# Altium footprint library PCB1.PcbLib: 36 footprints (part 1 of 3)
Each footprint in its own frame and in the unit in brackets; x right, y up, seen from the top. Pads: shape width x height; smd on the part's side, far side on the other; paste and mask are expansions set on the pad; w line width, h text height; cw(c..) or ccw(c..) is an arc to the next point about the centre after c.
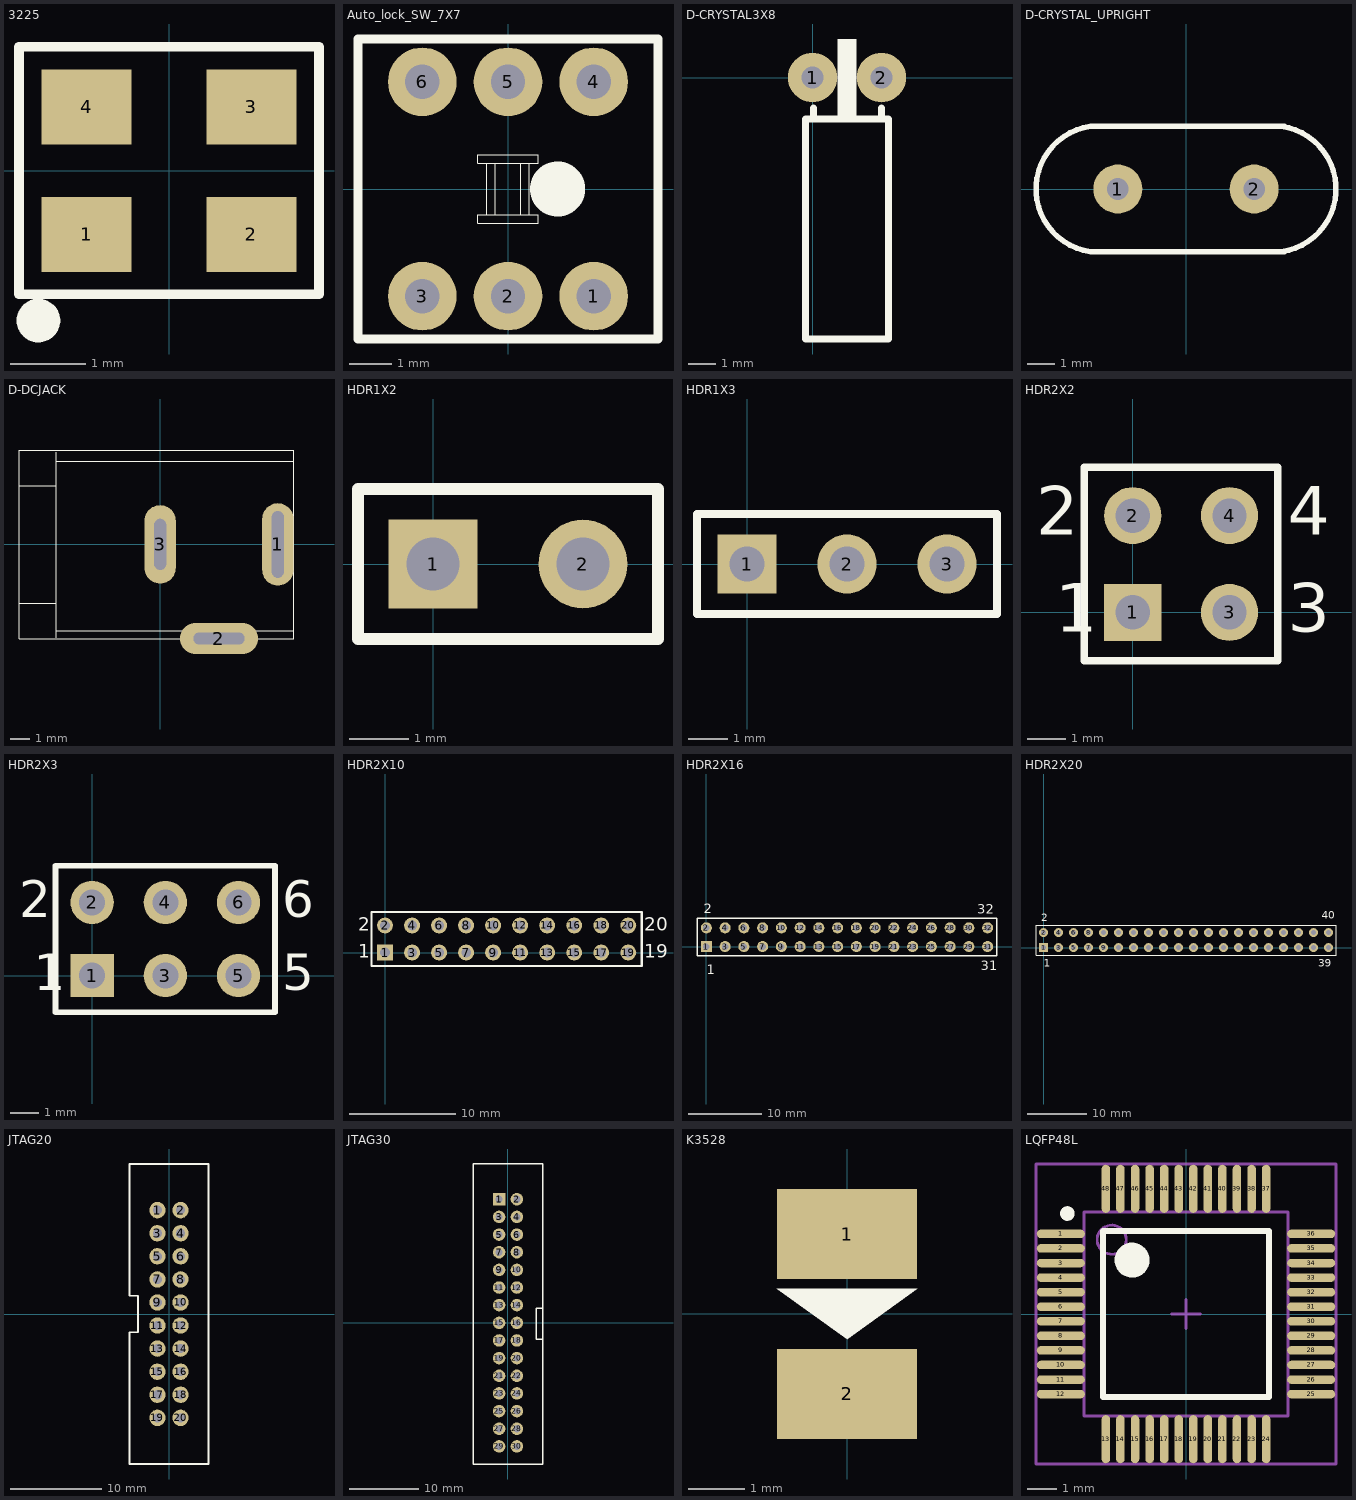
[diagram p0: the footprints below, top view; thin cyan lines are the x and y axes]

## 3225 [mm]
height 1.6
pads (4):
  rect 1.2x1 smd: 1(-1.1,-0.85) 2(1.1,-0.85) 3(1.1,0.85) 4(-1.1,0.85)
Top Overlay:
  circle w0.3: c-1.741,-2 r0.141
  lines w0.127: -2,-1.65 -2,0 -2,1.65 2,1.65 2,-1.65 -2,-1.65

## Auto_lock_SW_7X7 [mm]
height 1.6
pads (6):
  round 1.6 hole 0.8: 1(2,-2.5) 2(0,-2.5) 3(-2,-2.5) 4(2,2.5) 5(0,2.5) 6(-2,2.5)
Top Overlay:
  circle w1: c1.159,0 r0.141
  lines w0.025: -0.7,-0.8 0.7,-0.8 0.7,-0.6 -0.7,-0.6 -0.7,-0.8 ; -0.7,0.6 0.7,0.6 0.7,0.8 -0.7,0.8 -0.7,0.6 ; -0.5,-0.6 0.5,-0.6 0.5,0.6 -0.5,0.6 -0.5,-0.6 ; -0.3,-0.6 0.3,-0.6 0.3,0.6 -0.3,0.6 -0.3,-0.6
  lines w0.2: -3.5,-3.5 3.5,-3.5 3.5,3.5 -3.5,3.5 -3.5,-3.5

## D-CRYSTAL3X8 [mm]
height 1.6
pads (2):
  round 1.8 hole 0.8: 1(0,0) 2(2.5,0)
Top Overlay:
  rectangle: 0.9,-1.4 1.6,1.4
  lines w0.254: 0.03,-1.44 0.03,-1.11 ; 2.5,-1.44 2.5,-1.1 ; -0.25,-9.5 2.75,-9.5 2.75,-1.5 -0.25,-1.5 -0.25,-9.5
Bottom Overlay:
  rectangle: 0.9,-1.4 1.6,1.4

## D-CRYSTAL_UPRIGHT [mm]
height 1.6
pads (2):
  round 1.8 hole 0.8: 1(-2.5,0) 2(2.5,0)
Top Overlay:
  lines w0.2: 3.501,-2.3 ccw(c3.177,0) 3.501,2.3 ; 3.6,-2.3 -3.5,-2.3 cw(c-3.177,0) -3.501,2.3 3.6,2.3

## D-DCJACK [mm]
height 1.6
pads (3):
  oval 1.6x4.2 hole 0.6 slot 3.4 at 90 deg: 1(6,0)
  oval 4x1.6 hole 0.6 slot 2.6 at 0 deg: 2(3,-4.8)
  oval 1.6x4 hole 0.6 slot 2.6 at 90 deg: 3(0,0)
Top Overlay:
  lines w0.025: -7.2,-3 -5.35,-3 ; -7.2,3 -5.3,3 ; -5.3,-4.75 -5.3,4.7 ; -5.3,-4.4 6.8,-4.4 ; -5.3,4.25 6.8,4.25 ; -7.2,-4.8 -7.2,4.8 6.8,4.8 6.8,-4.8 -7.2,-4.8

## HDR1X2 [mm] "Connector; Header; 2 Position"
height 1.6
pads (2):
  rect 1.5x1.5 hole 0.9: 1(0,0)
  round 1.5 hole 0.9: 2(2.54,0)
Top Overlay:
  lines w0.2: -1.27,-1.27 -1.27,1.27 3.81,1.27 3.81,-1.27 -1.27,-1.27

## HDR1X3 [mm] "Connector; Header; 3 Position"
height 1.6
pads (3):
  rect 1.5x1.5 hole 0.9: 1(0,0)
  round 1.5 hole 0.9: 2(2.54,0) 3(5.08,0)
Top Overlay:
  lines w0.2: -1.27,-1.27 -1.27,1.27 6.35,1.27 6.35,-1.27 -1.27,-1.27

## HDR2X2 [mm] "Connector; Header; 2x2 Position"
height 1.6
pads (4):
  rect 1.5x1.5 hole 0.9: 1(0,0)
  round 1.5 hole 0.9: 2(0,2.54) 3(2.54,0) 4(2.54,2.54)
Top Overlay:
  lines w0.2: -1.27,-1.27 3.81,-1.27 3.81,3.81 -1.27,3.81 -1.27,-1.27
  text "3" at 4.064,-0.508 h1.27
  text "4" at 4.064,2.032 h1.27
  text "2" at -2.54,2.032 h1.27
  text "1" at -2.032,-0.508 h1.27

## HDR2X3 [mm] "Connector; Header; 3x2 Position"
height 1.6
pads (6):
  rect 1.5x1.5 hole 0.9: 1(0,0)
  round 1.5 hole 0.9: 2(0,2.54) 3(2.54,0) 4(2.54,2.54) 5(5.08,0) 6(5.08,2.54)
Top Overlay:
  lines w0.2: 1.482,-1.27 6.35,-1.27 ; 6.35,-1.27 -1.27,-1.27 -1.27,3.81 6.35,3.81 6.35,-1.27
  text "1" at -2.032,-0.508 h1.27
  text "2" at -2.54,2.032 h1.27
  text "5" at 6.604,-0.508 h1.27
  text "6" at 6.604,2.032 h1.27

## HDR2X10 [mm] "Connector; Header; 10x2 Position"
height 1.6
pads (20):
  rect 1.5x1.5 hole 0.9: 1(0,0)
  round 1.5 hole 0.9: 2(0,2.54) 3(2.54,0) 4(2.54,2.54) 5(5.08,0) 6(5.08,2.54) 7(7.62,0) 8(7.62,2.54) 9(10.16,0) 10(10.16,2.54) 11(12.7,0) 12(12.7,2.54) 13(15.24,0) 14(15.24,2.54) 15(17.78,0) 16(17.78,2.54) 17(20.32,0) 18(20.32,2.54) 19(22.86,0) 20(22.86,2.54)
Top Overlay:
  lines w0.2: -1.27,-1.27 -1.27,3.81 0.635,3.81 24.13,3.81 24.13,-1.27 0.635,-1.27 -1.27,-1.27
  text "2" at -2.54,2.032 h1.27
  text "1" at -2.54,-0.508 h1.27
  text "19" at 24.384,-0.508 h1.27
  text "20" at 24.384,2.032 h1.27

## HDR2X16 [mm] "Connector; Header; 16x2 Position"
height 1.6
pads (32):
  rect 1.5x1.5 hole 0.9: 1(0,0)
  round 1.5 hole 0.9: 2(0,2.54) 3(2.54,0) 4(2.54,2.54) 5(5.08,0) 6(5.08,2.54) 7(7.62,0) 8(7.62,2.54) 9(10.16,0) 10(10.16,2.54) 11(12.7,0) 12(12.7,2.54) 13(15.24,0) 14(15.24,2.54) 15(17.78,0) 16(17.78,2.54) 17(20.32,0) 18(20.32,2.54) 19(22.86,0) 20(22.86,2.54) 21(25.4,0) 22(25.4,2.54) 23(27.94,0) 24(27.94,2.54) 25(30.48,0) 26(30.48,2.54) 27(33.02,0) 28(33.02,2.54) 29(35.56,0) 30(35.56,2.54) 31(38.1,0) 32(38.1,2.54)
Top Overlay:
  lines w0.2: -1.27,-1.27 -1.27,3.81 39.37,3.81 39.37,-1.27 -1.27,-1.27
  text "32" at 36.678,4.445 h1.27
  text "31" at 37.16,-3.226 h1.27
  text "1" at 0.025,-3.759 h1.27
  text "2" at -0.356,4.547 h1.27

## HDR2X20 [mm] "Connector; Header; 20x2 Position"
height 1.6
pads (40):
  rect 1.5x1.5 hole 0.9: 1(0,0)
  round 1.5 hole 0.9: 2(0,2.54) 3(2.54,0) 4(2.54,2.54) 5(5.08,0) 6(5.08,2.54) 7(7.62,0) 8(7.62,2.54) 9(10.16,0) 10(10.16,2.54) 11(12.7,0) 12(12.7,2.54) 13(15.24,0) 14(15.24,2.54) 15(17.78,0) 16(17.78,2.54) 17(20.32,0) 18(20.32,2.54) 19(22.86,0) 20(22.86,2.54) 21(25.4,0) 22(25.4,2.54) 23(27.94,0) 24(27.94,2.54) 25(30.48,0) 26(30.48,2.54) 27(33.02,0) 28(33.02,2.54) 29(35.56,0) 30(35.56,2.54) 31(38.1,0) 32(38.1,2.54) 33(40.64,0) 34(40.64,2.54) 35(43.18,0) 36(43.18,2.54) 37(45.72,0) 38(45.72,2.54) 39(48.26,0) 40(48.26,2.54)
Top Overlay:
  lines w0.2: -1.27,-1.27 -1.27,3.81 49.53,3.81 49.53,-1.27 -1.27,-1.27
  text "39" at 46.558,-3.226 h1.27
  text "40" at 47.117,4.902 h1.27
  text "2" at -0.381,4.42 h1.27
  text "1" at 0.076,-3.277 h1.27

## JTAG20 [mm]
height 1.6
pads (20):
  round 1.8 hole 1 unplated: 1(-1.27,11.43) 2(1.27,11.43) 3(-1.27,8.89) 4(1.27,8.89) 5(-1.27,6.35) 6(1.27,6.35) 7(-1.27,3.81) 8(1.27,3.81) 9(-1.27,1.27) 10(1.27,1.27) 11(-1.27,-1.27) 12(1.27,-1.27) 13(-1.27,-3.81) 14(1.27,-3.81) 15(-1.27,-6.35) 16(1.27,-6.35) 17(-1.27,-8.89) 18(1.27,-8.89) 19(-1.27,-11.43) 20(1.27,-11.43)
Top Overlay:
  lines w0.2: -3.4,2 -4.35,2 -4.35,16.51 4.35,16.51 4.35,-16.51 -4.35,-16.51 -4.35,-2 -3.4,-2 -3.4,2 ; -3.4,2 -3.4,2

## JTAG30 [mm]
height 1.6
pads (30):
  rect 1.8x1.8 hole 1.02: 1(-1.27,17.78)
  round 1.8 hole 1.02: 2(1.27,17.78) 3(-1.27,15.24) 4(1.27,15.24) 5(-1.27,12.7) 6(1.27,12.7) 7(-1.27,10.16) 8(1.27,10.16) 9(-1.27,7.62) 10(1.27,7.62) 11(-1.27,5.08) 12(1.27,5.08) 13(-1.27,2.54) 14(1.27,2.54) 15(-1.27,0) 16(1.27,0) 17(-1.27,-2.54) 18(1.27,-2.54) 19(-1.27,-5.08) 20(1.27,-5.08) 21(-1.27,-7.62) 22(1.27,-7.62) 23(-1.27,-10.16) 24(1.27,-10.16) 25(-1.27,-12.7) 26(1.27,-12.7) 27(-1.27,-15.24) 28(1.27,-15.24) 29(-1.27,-17.78) 30(1.27,-17.78)
Top Overlay:
  lines w0.2: 5.035,-2.39 4.035,-2.39 4.035,2.11 5.035,2.11 ; -5.035,-20.31 5.035,-20.31 5.035,22.85 -5.035,22.85 -5.035,17.78 -5.035,-20.31

## K3528 [mm]
height 1.6
pads (2):
  rect 2.5x1.6 smd: 1(0,1.425) 2(0,-1.425)
Top Overlay:
  region: -1.25,0.45 0,-0.45 1.25,0.45

## LQFP48L [mm] "TSQFP, 48-Leads, Body 9.0x9.0mm (max), Pitch 0.50mm, IPC Medium Density"
height 1.6
pads (48):
  oval 1.65x0.292 smd: 1(-4.3,2.75) 2(-4.3,2.25) 3(-4.3,1.75) 4(-4.3,1.25) 5(-4.3,0.75) 6(-4.3,0.25) 7(-4.3,-0.25) 8(-4.3,-0.75) 9(-4.3,-1.25) 10(-4.3,-1.75) 11(-4.3,-2.25) 12(-4.3,-2.75) 25(4.3,-2.75) 26(4.3,-2.25) 27(4.3,-1.75) 28(4.3,-1.25) 29(4.3,-0.75) 30(4.3,-0.25) 31(4.3,0.25) 32(4.3,0.75) 33(4.3,1.25) 34(4.3,1.75) 35(4.3,2.25) 36(4.3,2.75)
  oval 0.292x1.65 smd: 13(-2.75,-4.3) 14(-2.25,-4.3) 15(-1.75,-4.3) 16(-1.25,-4.3) 17(-0.75,-4.3) 18(-0.25,-4.3) 19(0.25,-4.3) 20(0.75,-4.3) 21(1.25,-4.3) 22(1.75,-4.3) 23(2.25,-4.3) 24(2.75,-4.3) 37(2.75,4.3) 38(2.25,4.3) 39(1.75,4.3) 40(1.25,4.3) 41(0.75,4.3) 42(0.25,4.3) 43(-0.25,4.3) 44(-0.75,4.3) 45(-1.25,4.3) 46(-1.75,4.3) 47(-2.25,4.3) 48(-2.75,4.3)
Top Overlay:
  circle w0.25: c-4.075,3.45 r0.125
  circle w0.6: c-1.85,1.85 r0.3
  lines w0.2: -2.85,-2.85 -2.85,2.85 2.85,2.85 2.85,-2.85 -2.85,-2.85
Mechanical 13:
  circle w0.1: c-2.55,2.55 r0.5
  lines w0.1: -3.5,-3.5 -3.5,3.5 3.5,3.5 3.5,-3.5 -3.5,-3.5
Mechanical 15:
  lines w0.1: -0.5,0 0.5,0 ; 0,-0.5 0,0.5 ; -5.15,-5.15 -5.15,5.15 5.15,5.15 5.15,-5.15 -5.15,-5.15
3D body: height 1.6, standoff 1.4, extent -3.5,-3.5 3.5,3.5